# EAGLE library part MCP4728 (library printrbot)
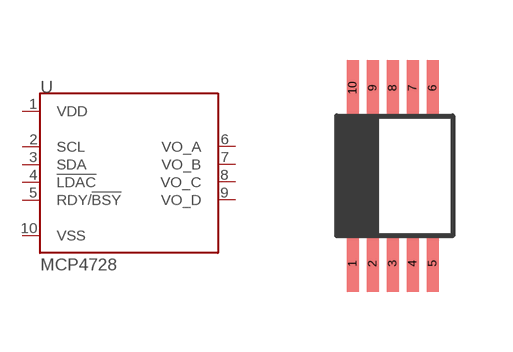
[diagram p9: symbol with the pads of MSOP10; footprint MSOP10]

Designator prefix U

## MCP4728  [MSOP10]
1  VDD  pwr
2  SCL  in
3  SDA
4  !LDAC  in
5  RDY/!BSY  in
6  VO_A  out
7  VO_B  out
8  VO_C  out
9  VO_D  out
10  VSS  pwr

## Footprint MSOP10 (pad centres in mm)
smd 0.3 x 1.4: 1 -1,-2.2; 2 -0.5,-2.2; 3 0,-2.2; 4 0.5,-2.2; 5 1,-2.2; 6 1,2.2; 7 0.5,2.2; 8 0,2.2; 9 -0.5,2.2; 10 -1,2.2